# Altium schematic symbol library LM5117.SchLib: 1 symbol
Pins are listed as number, name and electrical type; pins without a type are passive.

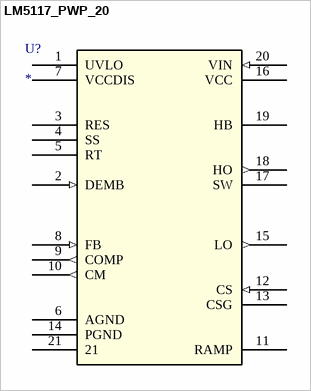
[diagram p0: symbol LM5117_PWP_20]

## LM5117_PWP_20
designator U?
Wide Input Range Synchronous Buck Controller with Analog Current Monitor; Manufacturer: Texas Instruments; Manufacturer_Part_Number: lm5117_pwp_20; basePN: LM5117; NSC_PackageReference: MXA20A; DatasheetURL: http://www.ti.com/lit/ds/symlink/lm5117.pdf; Vendor: Texas Instruments; RefDes: RefDes; Type: DEV; Value: Value
footprint MXA20A-M
pins: 1 UVLO, 2 DEMB (in), 3 RES, 4 SS, 5 RT, 6 AGND (power), 7 VCCDIS (power), 8 FB (in), 9 COMP (out), 10 CM (out), 11 RAMP, 12 CS (in), 13 CSG, 14 PGND (power), 15 LO (out), 16 VCC (power), 17 SW, 18 HO (out), 19 HB, 20 VIN (in), 21